# Altium footprint library mySparky.PcbLib: 17 footprints (part 2 of 2)
Each footprint in its own frame and in the unit in brackets; x right, y up, seen from the top. Pads: shape width x height; smd on the part's side, far side on the other; paste and mask are expansions set on the pad; w line width, h text height; cw(c..) or ccw(c..) is an arc to the next point about the centre after c.
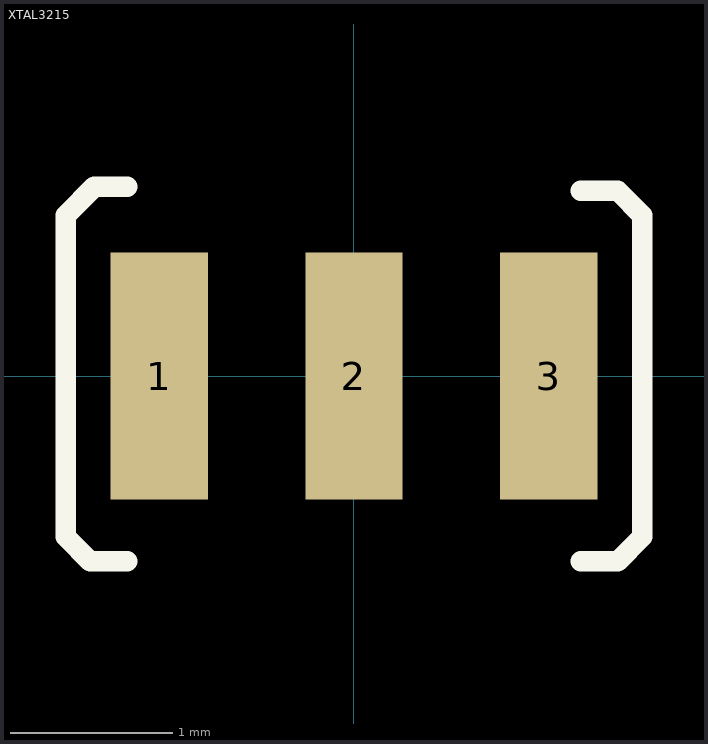
[diagram p1: the footprint, top view; thin cyan lines are the x and y axes]

## XTAL3215 [mm]
pads (3):
  rect 0.6x1.524 smd: 1(-1.2,0) 2(0,0) 3(1.2,0)
Top Overlay:
  lines w0.127: -1.397,-1.143 -1.626,-1.143 -1.778,-0.991 -1.778,0.991 -1.6,1.168 -1.397,1.168 ; 1.397,-1.143 1.626,-1.143 1.778,-0.991 1.778,0.991 1.626,1.143 1.397,1.143